# EAGLE library part THS4011 (library components)
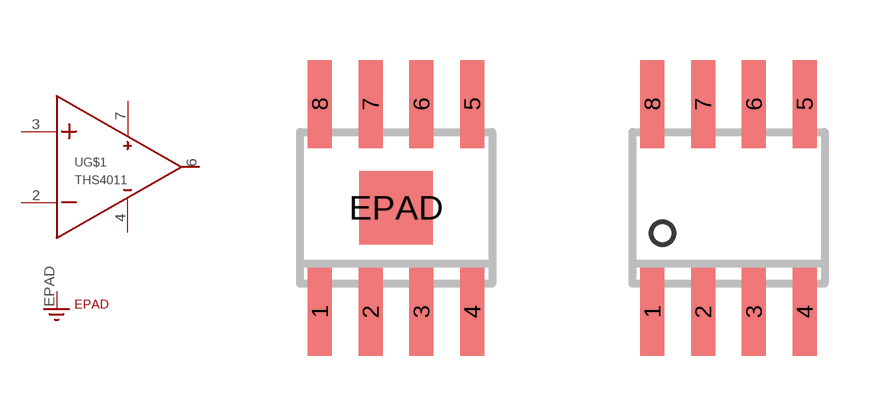
[diagram p7: symbol with the pads of SO-08; footprints SO-08, SO08]

Designator prefix -; gates G$1=THS401X G$2=THS401X_POWER G$3=EPAD

## THS4011SOIC8-EPAD  [SO-08]
2  G$1:IN-
3  G$1:IN+
4  G$2:VCC-
6  G$1:OUT
7  G$2:VCC+
EPAD  G$3:EPAD

## THS4011SOIC8  [SO08]
2  G$1:IN-
3  G$1:IN+
4  G$2:VCC-
5  G$3:EPAD
6  G$1:OUT
7  G$2:VCC+

## Footprint SO-08 (pad centres in mm)
Small Outline Narrow Plastic Gull Wing 150-mil body, package type SN
smd 0.6 x 2.2: 1 -1.905,-2.6; 2 -0.635,-2.6; 3 0.635,-2.6; 4 1.905,-2.6; 5 1.905,2.6; 6 0.635,2.6; 7 -0.635,2.6; 8 -1.905,2.6
smd 1.829 x 1.829: EPAD 0,0

## Footprint SO08 (pad centres in mm)
SMALL OUTLINE INTEGRATED CIRCUIT body 3.9 mm/JEDEC MS-012AA
smd 0.6 x 2.2: 1 -1.905,-2.6; 2 -0.635,-2.6; 3 0.635,-2.6; 4 1.905,-2.6; 5 1.905,2.6; 6 0.635,2.6; 7 -0.635,2.6; 8 -1.905,2.6